# Altium schematic symbol library Schlib1.SchLib: 6 symbols
Pins are listed as number, name and electrical type; pins without a type are passive.

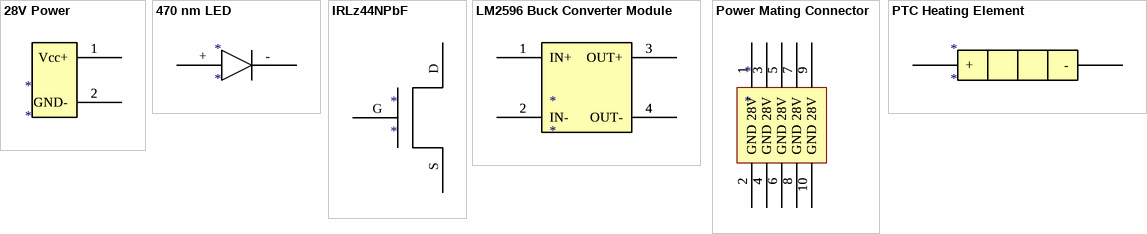
[diagram p0: symbols 28V Power to PTC Heating Element]

## 28V Power
designator *
pins: 1 Vcc+, 1 Vcc+, 2 GND-, 2 GND-

## 470 nm LED
designator *
pins: + 6, - 7

## IRLz44NPbF
designator *
pins: D 14, G 13, S 15

## LM2596 Buck Converter Module
designator *
pins: 1 IN+, 1 IN+, 2 IN-, 2 IN-, 3 OUT+, 3 OUT+, 4 OUT-, 4 OUT-

## Power Mating Connector
designator *
pins: 1 28V, 1 28V, 2 GND, 2 GND, 3 28V, 3 28V, 4 GND, 4 GND, 5 28V, 5 28V, 6 GND, 6 GND, 7 28V, 7 28V, 8 GND, 8 GND, 9 28V, 9 28V, 10 GND, 10 GND

## PTC Heating Element
designator *
pins: 8 +, 8 +, ?1 -, ?2 -